# Altium footprint library 621 3xx 210 21.PcbLib: 11 footprints
Each footprint in its own frame and in the unit in brackets; x right, y up, seen from the top. Pads: shape width x height; smd on the part's side, far side on the other; paste and mask are expansions set on the pad; w line width, h text height; cw(c..) or ccw(c..) is an arc to the next point about the centre after c.
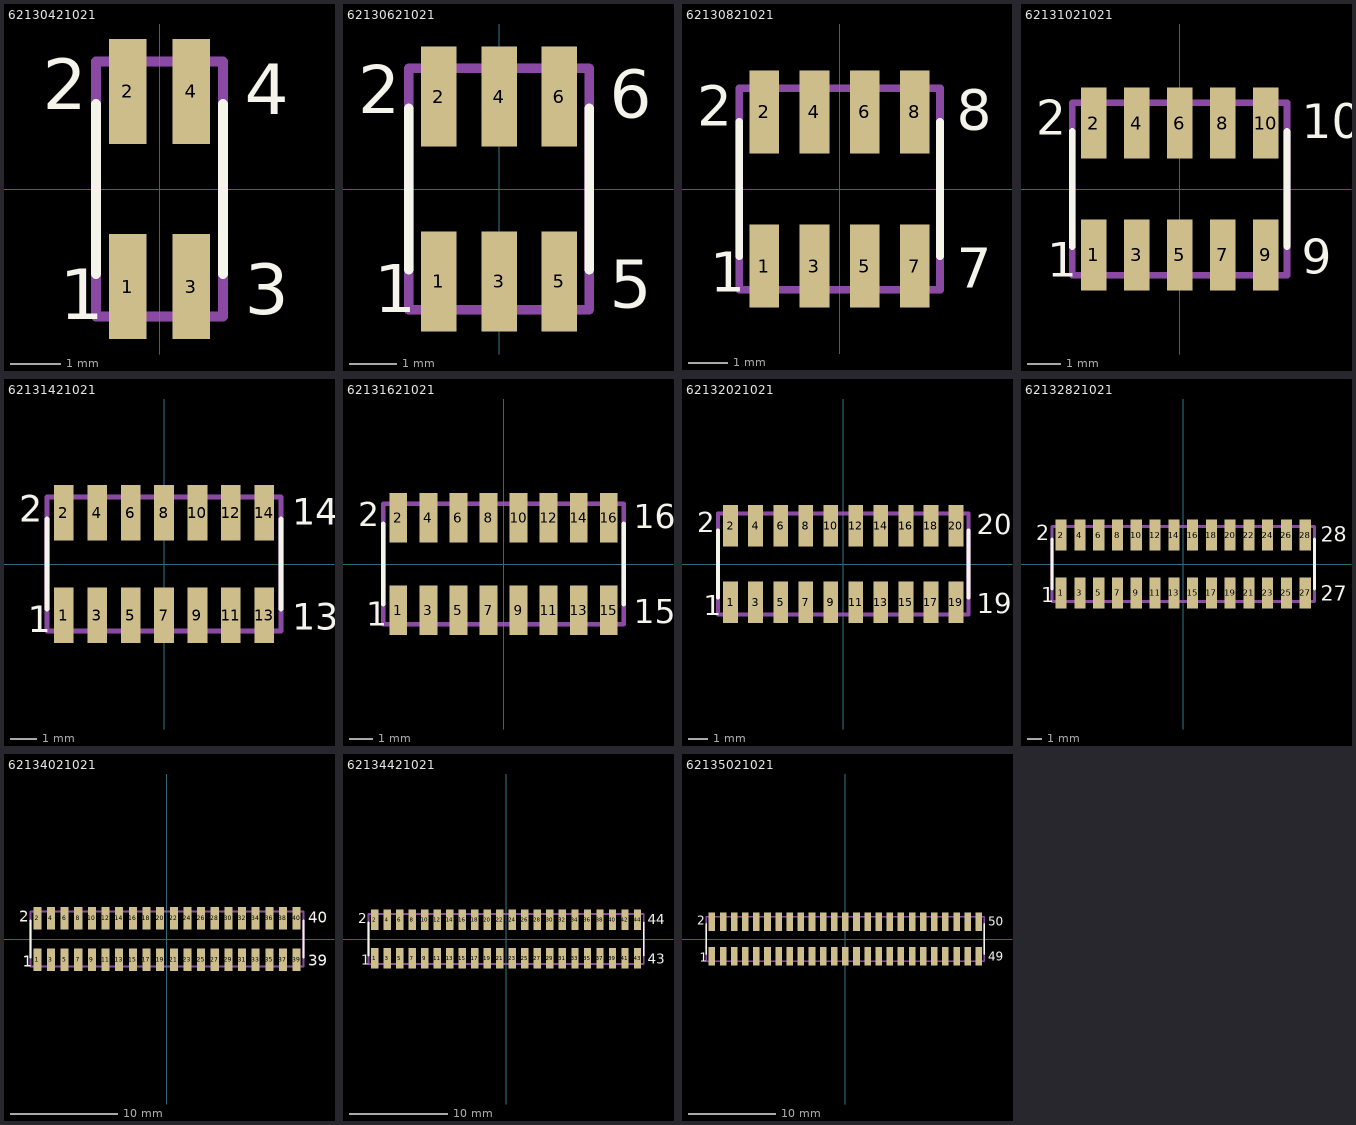
[diagram p0: the footprints below, top view; thin cyan lines are the x and y axes]

## 62130421021 [mm] "SMD Dual Pin Header, H=3.80mm (Reel), 4p"
height 3.8
pads (4):
  rect 0.75x2.1 smd: 1(-0.635,-1.95) 2(-0.635,1.95) 3(0.635,-1.95) 4(0.635,1.95)
Top Overlay:
  lines w0.2: -1.27,-1.7 -1.27,1.7 ; 1.27,-1.7 1.27,1.7
  text "4" at 1.7,1.5 h1.02
  text "3" at 1.7,-2.5 h1.02
  text "2" at -2.339,1.6 h1.02
  text "1" at -2,-2.6 h1.02
Mechanical 13:
  lines w0.2: -1.27,-2.55 -1.27,2.55 1.27,2.55 1.27,-2.55 -1.27,-2.55
3D body "62130421021.stp": height 5.9, standoff 0, extent -1.27,-2.55 1.27,2.55

## 62130621021 [mm] "SMD Dual Pin Header, H=3.80mm (Reel), 6p"
height 3.8
pads (6):
  rect 0.75x2.1 smd: 1(-1.27,-1.95) 2(-1.27,1.95) 3(0,-1.95) 4(0,1.95) 5(1.27,-1.95) 6(1.27,1.95)
Top Overlay:
  lines w0.2: -1.905,-1.7 -1.905,1.7 ; 1.905,-1.7 1.905,1.7
  text "1" at -2.635,-2.6 h1.02
  text "2" at -2.974,1.6 h1.02
  text "5" at 2.335,-2.5 h1.02
  text "6" at 2.335,1.5 h1.02
Mechanical 13:
  lines w0.2: -1.905,-2.55 1.905,-2.55 1.905,2.55 -1.905,2.55 -1.905,-2.55
3D body "62130621021.stp": height 5.9, standoff 0, extent -1.905,-2.55 1.905,2.55

## 62130821021 [mm] "SMD Dual Pin Header, H=3.80mm (Reel), 8p"
height 3.8
pads (8):
  rect 0.75x2.1 smd: 1(-1.905,-1.95) 2(-1.905,1.95) 3(-0.635,-1.95) 4(-0.635,1.95) 5(0.635,-1.95) 6(0.635,1.95) 7(1.905,-1.95) 8(1.905,1.95)
Top Overlay:
  lines w0.2: -2.54,-1.7 -2.54,1.7 ; 2.54,-1.7 2.54,1.7
  text "1" at -3.27,-2.6 h1.02
  text "2" at -3.609,1.6 h1.02
  text "8" at 2.97,1.5 h1.02
  text "7" at 2.97,-2.5 h1.02
Mechanical 13:
  lines w0.2: -2.54,-2.55 2.54,-2.55 2.54,2.55 -2.54,2.55 -2.54,-2.55
3D body "62130821021.stp": height 5.9, standoff 0, extent -2.54,-2.55 2.54,2.55

## 62131021021 [mm] "SMD Dual Pin Header, H=3.80mm (Reel), 10p"
height 3.8
pads (10):
  rect 0.75x2.1 smd: 1(-2.54,-1.95) 2(-2.54,1.95) 3(-1.27,-1.95) 4(-1.27,1.95) 5(0,-1.95) 6(0,1.95) 7(1.27,-1.95) 8(1.27,1.95) 9(2.54,-1.95) 10(2.54,1.95)
Top Overlay:
  lines w0.2: -3.175,-1.7 -3.175,1.7 ; 3.175,-1.7 3.175,1.7
  text "1" at -3.905,-2.6 h1.02
  text "2" at -4.244,1.6 h1.02
  text "9" at 3.605,-2.5 h1.02
  text "10" at 3.605,1.5 h1.02
Mechanical 13:
  lines w0.2: -3.175,-2.55 3.175,-2.55 3.175,2.55 -3.175,2.55 -3.175,-2.55
3D body "62131021021.stp": height 5.9, standoff 0, extent -3.175,-2.55 3.175,2.55

## 62131421021 [mm] "SMD Dual Pin Header, H=3.80mm (Reel), 14p"
height 3.8
pads (14):
  rect 0.75x2.1 smd: 1(-3.81,-1.95) 2(-3.81,1.95) 3(-2.54,-1.95) 4(-2.54,1.95) 5(-1.27,-1.95) 6(-1.27,1.95) 7(0,-1.95) 8(0,1.95) 9(1.27,-1.95) 10(1.27,1.95) 11(2.54,-1.95) 12(2.54,1.95) 13(3.81,-1.95) 14(3.81,1.95)
Top Overlay:
  lines w0.2: -4.445,-1.7 -4.445,1.7 ; 4.445,-1.7 4.445,1.7
  text "14" at 4.875,1.5 h1.02
  text "13" at 4.875,-2.5 h1.02
  text "1" at -5.175,-2.6 h1.02
  text "2" at -5.514,1.6 h1.02
Mechanical 13:
  lines w0.2: -4.445,-2.55 4.445,-2.55 4.445,2.55 -4.445,2.55 -4.445,-2.55
3D body "62131421021.stp": height 5.9, standoff 0, extent -4.445,-2.55 4.445,2.55

## 62131621021 [mm] "SMD Dual Pin Header, H=3.80mm (Reel), 16p"
height 3.8
pads (16):
  rect 0.75x2.1 smd: 1(-4.445,-1.95) 2(-4.445,1.95) 3(-3.175,-1.95) 4(-3.175,1.95) 5(-1.905,-1.95) 6(-1.905,1.95) 7(-0.635,-1.95) 8(-0.635,1.95) 9(0.635,-1.95) 10(0.635,1.95) 11(1.905,-1.95) 12(1.905,1.95) 13(3.175,-1.95) 14(3.175,1.95) 15(4.445,-1.95) 16(4.445,1.95)
Top Overlay:
  lines w0.2: -5.08,-1.7 -5.08,1.7 ; 5.08,-1.7 5.08,1.7
  text "2" at -6.149,1.6 h1.02
  text "1" at -5.81,-2.6 h1.02
  text "16" at 5.51,1.5 h1.02
  text "15" at 5.51,-2.5 h1.02
Mechanical 13:
  lines w0.2: -5.08,-2.55 -5.08,2.55 5.08,2.55 5.08,-2.55 -5.08,-2.55
3D body "62131621021.stp": height 5.9, standoff 0, extent -5.08,-2.55 5.08,2.55

## 62132021021 [mm] "SMD Dual Pin Header, H=3.80mm (Reel), 20p"
height 3.8
pads (20):
  rect 0.75x2.1 smd: 1(-5.715,-1.95) 2(-5.715,1.95) 3(-4.445,-1.95) 4(-4.445,1.95) 5(-3.175,-1.95) 6(-3.175,1.95) 7(-1.905,-1.95) 8(-1.905,1.95) 9(-0.635,-1.95) 10(-0.635,1.95) 11(0.635,-1.95) 12(0.635,1.95) 13(1.905,-1.95) 14(1.905,1.95) 15(3.175,-1.95) 16(3.175,1.95) 17(4.445,-1.95) 18(4.445,1.95) 19(5.715,-1.95) 20(5.715,1.95)
Top Overlay:
  lines w0.2: -6.35,-1.7 -6.35,1.7 ; 6.35,-1.7 6.35,1.7
  text "20" at 6.78,1.5 h1.02
  text "19" at 6.78,-2.5 h1.02
  text "1" at -7.08,-2.6 h1.02
  text "2" at -7.419,1.6 h1.02
Mechanical 13:
  lines w0.2: -6.35,-2.55 6.35,-2.55 6.35,2.55 -6.35,2.55 -6.35,-2.55
3D body "62132021021.stp": height 5.9, standoff 0, extent -6.35,-2.55 6.35,2.55

## 62132821021 [mm] "SMD Dual Pin Header, H=3.80mm (Reel), 28p"
height 3.8
pads (28):
  rect 0.75x2.1 smd: 1(-8.255,-1.95) 2(-8.255,1.95) 3(-6.985,-1.95) 4(-6.985,1.95) 5(-5.715,-1.95) 6(-5.715,1.95) 7(-4.445,-1.95) 8(-4.445,1.95) 9(-3.175,-1.95) 10(-3.175,1.95) 11(-1.905,-1.95) 12(-1.905,1.95) 13(-0.635,-1.95) 14(-0.635,1.95) 15(0.635,-1.95) 16(0.635,1.95) 17(1.905,-1.95) 18(1.905,1.95) 19(3.175,-1.95) 20(3.175,1.95) 21(4.445,-1.95) 22(4.445,1.95) 23(5.715,-1.95) 24(5.715,1.95) 25(6.985,-1.95) 26(6.985,1.95) 27(8.255,-1.95) 28(8.255,1.95)
Top Overlay:
  lines w0.2: -8.89,-1.7 -8.89,1.7 ; 8.89,-1.7 8.89,1.7
  text "27" at 9.32,-2.5 h1.02
  text "28" at 9.32,1.5 h1.02
  text "1" at -9.62,-2.6 h1.02
  text "2" at -9.959,1.6 h1.02
Mechanical 13:
  lines w0.2: -8.89,-2.55 8.89,-2.55 8.89,2.55 -8.89,2.55 -8.89,-2.55
3D body "62132821021.stp": height 5.9, standoff 0, extent -8.89,-2.55 8.89,2.55

## 62134021021 [mm] "SMD Dual Pin Header, H=3.80mm (Reel), 40p"
height 3.8
pads (40):
  rect 0.75x2.1 smd: 1(-12.065,-1.95) 2(-12.065,1.95) 3(-10.795,-1.95) 4(-10.795,1.95) 5(-9.525,-1.95) 6(-9.525,1.95) 7(-8.255,-1.95) 8(-8.255,1.95) 9(-6.985,-1.95) 10(-6.985,1.95) 11(-5.715,-1.95) 12(-5.715,1.95) 13(-4.445,-1.95) 14(-4.445,1.95) 15(-3.175,-1.95) 16(-3.175,1.95) 17(-1.905,-1.95) 18(-1.905,1.95) 19(-0.635,-1.95) 20(-0.635,1.95) 21(0.635,-1.95) 22(0.635,1.95) 23(1.905,-1.95) 24(1.905,1.95) 25(3.175,-1.95) 26(3.175,1.95) 27(4.445,-1.95) 28(4.445,1.95) 29(5.715,-1.95) 30(5.715,1.95) 31(6.985,-1.95) 32(6.985,1.95) 33(8.255,-1.95) 34(8.255,1.95) 35(9.525,-1.95) 36(9.525,1.95) 37(10.795,-1.95) 38(10.795,1.95) 39(12.065,-1.95) 40(12.065,1.95)
Top Overlay:
  lines w0.2: -12.7,-1.7 -12.7,1.7 ; 12.7,-1.7 12.7,1.7
  text "40" at 13.13,1.5 h1.02
  text "39" at 13.13,-2.5 h1.02
  text "1" at -13.43,-2.6 h1.02
  text "2" at -13.769,1.6 h1.02
Mechanical 13:
  lines w0.2: -12.7,-2.55 12.7,-2.55 12.7,2.55 -12.7,2.55 -12.7,-2.55
3D body "62134021021.stp": height 5.9, standoff 0, extent -12.7,-2.55 12.7,2.55

## 62134421021 [mm] "SMD Dual Pin Header, H=3.80mm (Reel), 44p"
height 3.8
pads (44):
  rect 0.75x2.1 smd: 1(-13.335,-1.95) 2(-13.335,1.95) 3(-12.065,-1.95) 4(-12.065,1.95) 5(-10.795,-1.95) 6(-10.795,1.95) 7(-9.525,-1.95) 8(-9.525,1.95) 9(-8.255,-1.95) 10(-8.255,1.95) 11(-6.985,-1.95) 12(-6.985,1.95) 13(-5.715,-1.95) 14(-5.715,1.95) 15(-4.445,-1.95) 16(-4.445,1.95) 17(-3.175,-1.95) 18(-3.175,1.95) 19(-1.905,-1.95) 20(-1.905,1.95) 21(-0.635,-1.95) 22(-0.635,1.95) 23(0.635,-1.95) 24(0.635,1.95) 25(1.905,-1.95) 26(1.905,1.95) 27(3.175,-1.95) 28(3.175,1.95) 29(4.445,-1.95) 30(4.445,1.95) 31(5.715,-1.95) 32(5.715,1.95) 33(6.985,-1.95) 34(6.985,1.95) 35(8.255,-1.95) 36(8.255,1.95) 37(9.525,-1.95) 38(9.525,1.95) 39(10.795,-1.95) 40(10.795,1.95) 41(12.065,-1.95) 42(12.065,1.95) 43(13.335,-1.95) 44(13.335,1.95)
Top Overlay:
  lines w0.2: -13.97,-1.7 -13.97,1.7 ; 13.97,-1.7 13.97,1.7
  text "2" at -15.039,1.6 h1.02
  text "1" at -14.7,-2.6 h1.02
  text "44" at 14.4,1.5 h1.02
  text "43" at 14.4,-2.5 h1.02
Mechanical 13:
  lines w0.2: -13.97,-2.55 -13.97,2.55 13.97,2.55 13.97,-2.55 -13.97,-2.55
3D body "62134421021.stp": height 5.9, standoff 0, extent -13.97,-2.55 13.97,2.55

## 62135021021 [mm] "SMD Dual Pin Header, H=3.80mm (Reel), 50p"
height 3.8
pads (50):
  rect 0.75x2.1 smd: 1(-15.24,-1.95) 2(-15.24,1.95) 3(-13.97,-1.95) 4(-13.97,1.95) 5(-12.7,-1.95) 6(-12.7,1.95) 7(-11.43,-1.95) 8(-11.43,1.95) 9(-10.16,-1.95) 10(-10.16,1.95) 11(-8.89,-1.95) 12(-8.89,1.95) 13(-7.62,-1.95) 14(-7.62,1.95) 15(-6.35,-1.95) 16(-6.35,1.95) 17(-5.08,-1.95) 18(-5.08,1.95) 19(-3.81,-1.95) 20(-3.81,1.95) 21(-2.54,-1.95) 22(-2.54,1.95) 23(-1.27,-1.95) 24(-1.27,1.95) 25(0,-1.95) 26(0,1.95) 27(1.27,-1.95) 28(1.27,1.95) 29(2.54,-1.95) 30(2.54,1.95) 31(3.81,-1.95) 32(3.81,1.95) 33(5.08,-1.95) 34(5.08,1.95) 35(6.35,-1.95) 36(6.35,1.95) 37(7.62,-1.95) 38(7.62,1.95) 39(8.89,-1.95) 40(8.89,1.95) 41(10.16,-1.95) 42(10.16,1.95) 43(11.43,-1.95) 44(11.43,1.95) 45(12.7,-1.95) 46(12.7,1.95) 47(13.97,-1.95) 48(13.97,1.95) 49(15.24,-1.95) 50(15.24,1.95)
Top Overlay:
  lines w0.2: -15.875,-1.7 -15.875,1.7 ; 15.875,-1.7 15.875,1.7
  text "1" at -16.605,-2.6 h1.02
  text "2" at -16.944,1.6 h1.02
  text "50" at 16.305,1.5 h1.02
  text "49" at 16.305,-2.5 h1.02
Mechanical 13:
  lines w0.2: -15.875,-2.55 15.875,-2.55 15.875,2.55 -15.875,2.55 -15.875,-2.55
3D body "62135021021.stp": height 5.9, standoff 0, extent -15.875,-2.55 15.875,2.55